# EAGLE library part PIC18F14K50-E-P (library microchip_extended)
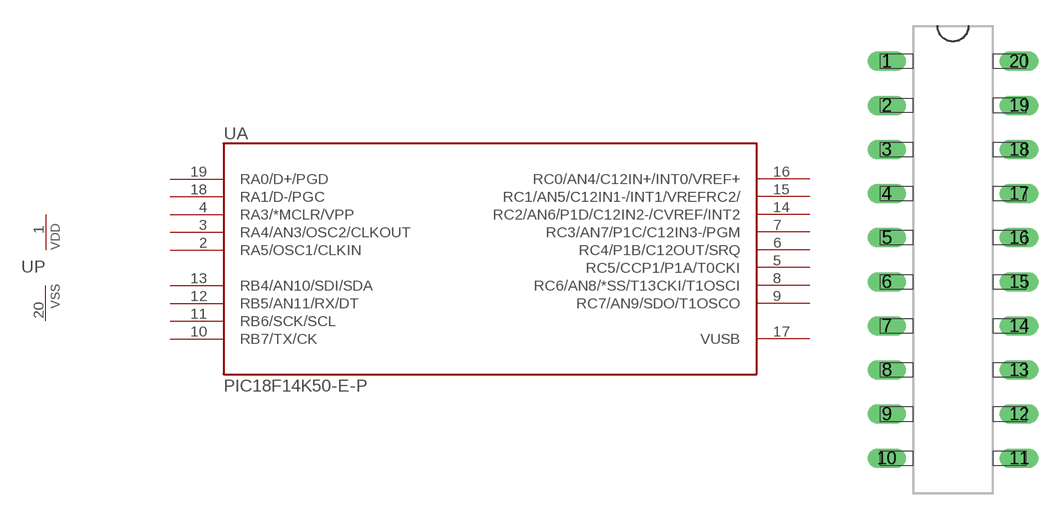
[diagram p0: symbol with the pads of PIC18F14K50-E/P; footprint PIC18F14K50-E/P]

Designator prefix U; gates A=PIC18F14K50-E-P P=PWRN

## PIC18F14K50-E-P  [PIC18F14K50-E/P]
1  P:VDD  pas
2  A:RA5/OSC1/CLKIN
3  A:RA4/AN3/OSC2/CLKOUT
4  A:RA3/*MCLR/VPP  in
5  A:RC5/CCP1/P1A/T0CKI
6  A:RC4/P1B/C12OUT/SRQ
7  A:RC3/AN7/P1C/C12IN3-/PGM
8  A:RC6/AN8/*SS/T13CKI/T1OSCI
9  A:RC7/AN9/SDO/T1OSCO
10  A:RB7/TX/CK
11  A:RB6/SCK/SCL
12  A:RB5/AN11/RX/DT
13  A:RB4/AN10/SDI/SDA
14  A:RC2/AN6/P1D/C12IN2-/CVREF/INT2
15  A:RC1/AN5/C12IN1-/INT1/VREFRC2/
16  A:RC0/AN4/C12IN+/INT0/VREF+
17  A:VUSB  pas
18  A:RA1/D-/PGC
19  A:RA0/D+/PGD
20  P:VSS  pas

## Footprint PIC18F14K50-E/P (pad centres in mm)
drill 0.6 pad 1.016 long: 1 -3.81,10.16; 2 -3.81,7.62; 3 -3.81,5.08; 4 -3.81,2.54; 5 -3.81,0; 6 -3.81,-2.54; 7 -3.81,-5.08; 8 -3.81,-7.62; 9 -3.81,-10.16; 10 -3.81,-12.7; 11 3.81,-12.7; 12 3.81,-10.16; 13 3.81,-7.62; 14 3.81,-5.08; 15 3.81,-2.54; 16 3.81,0; 17 3.81,2.54; 18 3.81,5.08; 19 3.81,7.62; 20 3.81,10.16